# EAGLE library part CP2101 (library usbtoys)
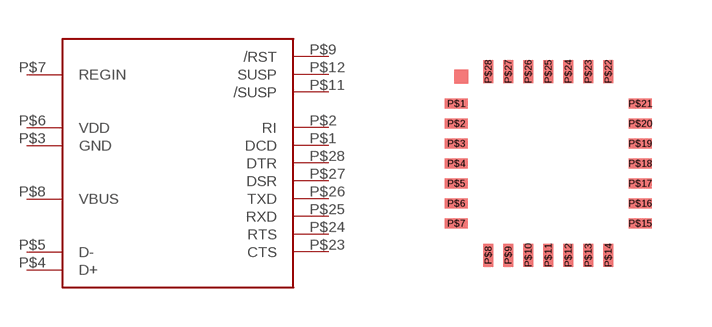
[diagram p1: symbol with the pads of 28MLP; footprint 28MLP]

Designator prefix -

## CP2101  [28MLP]
P$1  DCD
P$2  RI
P$3  GND
P$4  D+
P$5  D-
P$6  VDD
P$7  REGIN
P$8  VBUS
P$9  /RST
P$11  /SUSP
P$12  SUSP
P$23  CTS
P$24  RTS
P$25  RXD
P$26  TXD
P$27  DSR
P$28  DTR

## Footprint 28MLP (pad centres in mm)
smd 0.584 x 0.254: P$1 -2.7,1.75; P$2 -2.7,1.25; P$3 -2.7,0.75; P$4 -2.7,0.25; P$5 -2.7,-0.25; P$6 -2.7,-0.75; P$7 -2.7,-1.25; P$15 1.9,-1.25; P$16 1.9,-0.75; P$17 1.9,-0.25; P$18 1.9,0.25; P$19 1.9,0.75; P$20 1.9,1.25; P$21 1.9,1.75
smd 0.254 x 0.584: P$8 -1.9,-2.05; P$9 -1.4,-2.05; P$10 -0.9,-2.05; P$11 -0.4,-2.05; P$12 0.1,-2.05; P$13 0.6,-2.05; P$14 1.1,-2.05; P$22 1.1,2.55; P$23 0.6,2.55; P$24 0.1,2.55; P$25 -0.4,2.55; P$26 -0.9,2.55; P$27 -1.4,2.55; P$28 -1.9,2.55